# Altium footprint library PcbLib1.pcblib: 48 footprints (part 3 of 3)
Each footprint in its own frame and in the unit in brackets; x right, y up, seen from the top. Pads: shape width x height; smd on the part's side, far side on the other; paste and mask are expansions set on the pad; w line width, h text height; cw(c..) or ccw(c..) is an arc to the next point about the centre after c.
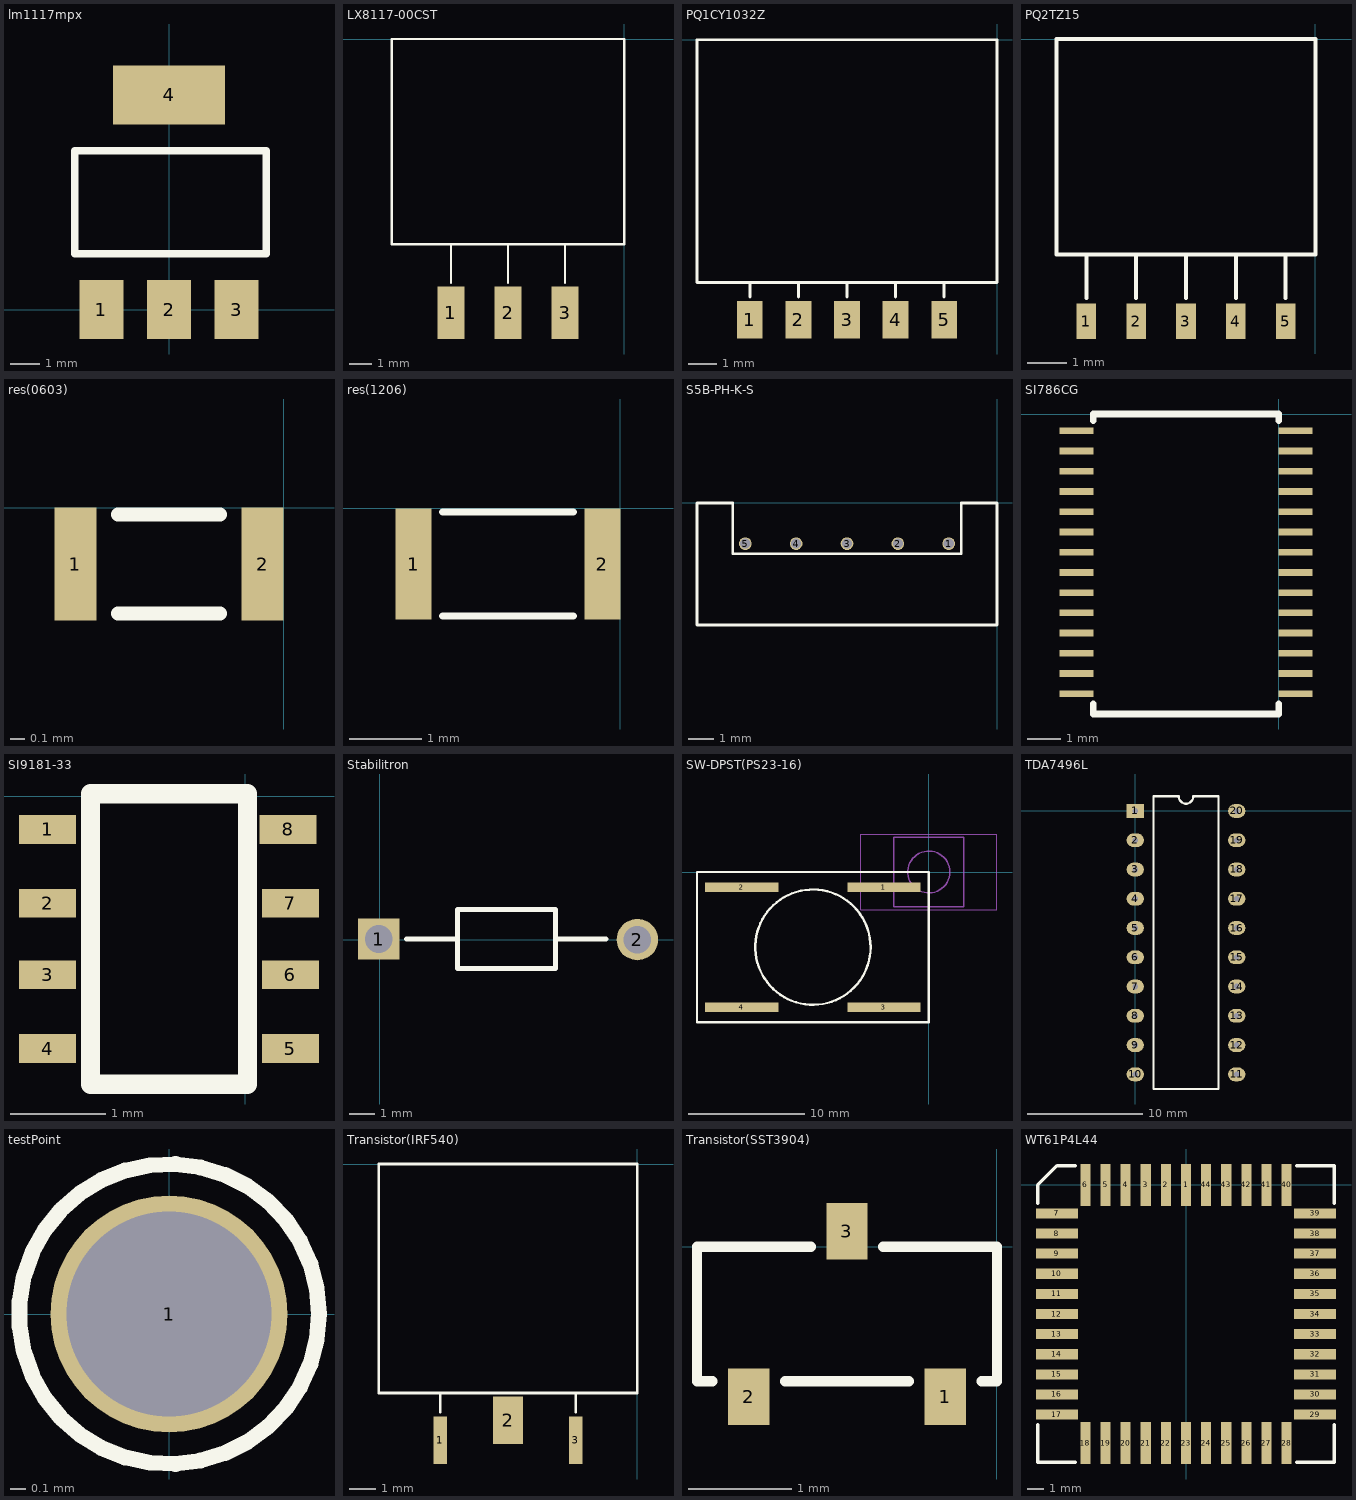
[diagram p2: the footprints below, top view; thin cyan lines are the x and y axes]

## lm1117mpx [mm]
pads (4):
  rect 1.5x2 smd: 1(-2.3,0) 2(0,0) 3(2.3,0)
  rect 3.8x2 smd: 4(0,7.3)
Top Overlay:
  lines w0.254: -3.2,1.9 3.3,1.9 3.3,5.4 -3.2,5.4 -3.2,1.9

## LX8117-00CST [mm]
pads (3):
  rect 1.2x2.3 smd: 1(-7.6,-12) 2(-5.1,-12) 3(-2.6,-12)
Top Overlay:
  lines w0.1: -7.6,-10.7 -7.6,-9 ; -5.1,-10.7 -5.1,-9 ; -2.6,-10.7 -2.6,-9 ; -10.2,-9 0,-9 0,0 -10.2,0 -10.2,-9

## PQ1CY1032Z [mm]
pads (5):
  rect 0.9x1.3 smd: 1(-8.65,-9.8) 2(-6.95,-9.8) 3(-5.25,-9.8) 4(-3.55,-9.8) 5(-1.85,-9.8)
Top Overlay:
  lines w0.1: -8.65,-9 -8.65,-8.5 ; -6.95,-9 -6.95,-8.5 ; -5.25,-9 -5.25,-8.5 ; -3.55,-9 -3.55,-8.55 ; -1.85,-9 -1.85,-8.55 ; -10.5,-8.5 0,-8.5 0,0 -10.5,0 -10.5,-8.5

## PQ2TZ15 [mm]
pads (5):
  rect 0.5x0.9 smd: 1(-5.84,-7.2) 2(-4.57,-7.2) 3(-3.3,-7.2) 4(-2.03,-7.2) 5(-0.76,-7.2)
Top Overlay:
  lines w0.1: -5.84,-6.6 -5.84,-5.5 ; -4.57,-6.6 -4.57,-5.5 ; -3.3,-6.6 -3.3,-5.5 ; -2.03,-6.6 -2.03,-5.5 ; -0.76,-6.6 -0.76,-5.5 ; -6.6,-5.5 0,-5.5 0,0 -6.6,0 -6.6,-5.5

## res(0603) [mm]
pads (2):
  rect 0.3x0.8 smd: 1(-1.475,-0.4) 2(-0.15,-0.4)
Top Overlay:
  lines w0.1: -1.175,-0.75 -0.45,-0.75 ; -1.175,-0.05 -0.45,-0.05

## res(1206) [mm]
pads (2):
  rect 0.5x1.55 smd: 1(-2.875,-0.775) 2(-0.25,-0.775)
Top Overlay:
  lines w0.1: -2.475,-1.5 -0.65,-1.5 ; -2.475,-0.05 -0.65,-0.05

## S5B-PH-K-S [mm]
pads (5):
  round 0.5 hole 0.4: 1(-1.9,-1.6) 2(-3.9,-1.6) 3(-5.9,-1.6) 4(-7.9,-1.6) 5(-9.9,-1.6)
Top Overlay:
  lines w0.1: -11.8,-4.8 0,-4.8 0,0 -1.4,0 -1.4,-2 -10.4,-2 -10.4,0 -11.8,0 -11.8,-4.8

## SI786CG [mm]
pads (28):
  rect 1x0.2 smd: 1(-6,-0.5) 2(-6,-1.1) 3(-6,-1.7) 4(-6,-2.3) 5(-6,-2.9) 6(-6,-3.5) 7(-6,-4.1) 8(-6,-4.7) 9(-6,-5.3) 10(-6,-5.9) 11(-6,-6.5) 12(-6,-7.1) 13(-6,-7.7) 14(-6,-8.3) 15(0.5,-8.3) 16(0.5,-7.7) 17(0.5,-7.1) 18(0.5,-6.5) 19(0.5,-5.9) 20(0.5,-5.3) 21(0.5,-4.7) 22(0.5,-4.1) 23(0.5,-3.5) 24(0.5,-2.9) 25(0.5,-2.3) 26(0.5,-1.7) 27(0.5,-1.1) 28(0.5,-0.5)
Top Overlay:
  lines w0.2: -5.5,-8.6 -5.5,-8.9 0,-8.9 0,-8.6 ; -5.5,-0.2 -5.5,0 0,0 0,-0.2

## SI9181-33 [mm]
pads (8):
  rect 0.6x0.3 smd mask+0.05: 1(-2.075,-0.35) 2(-2.075,-1.125) 3(-2.075,-1.875) 4(-2.075,-2.65) 5(0.475,-2.65) 6(0.475,-1.875) 7(0.475,-1.125) 8(0.45,-0.35)
Top Overlay:
  lines w0.2: -1.625,-3.025 0.025,-3.025 0.025,0.025 -1.625,0.025 -1.625,-3.025

## Stabilitron [mm]
pads (2):
  rect 1.65x1.65 hole 1.1: 1(-0.05,0.025)
  round 1.65 hole 1.1: 2(10.275,0)
Top Overlay:
  lines w0.2: 1.07,0.025 3.1,0.025 ; 9.03,0.025 7,0.025 ; 3.1,0.025 3.1,-1.15 7,-1.15 7,0.025 ; 3.1,0.025 3.1,1.2 7,1.2 7,0.025

## SW-DPST(PS23-16) [mm]
pads (4):
  rect 6.3x0.8 smd: 1(-3.85,-1.3) 2(-16.05,-1.3) 3(-3.85,-11.6) 4(-16.05,-11.6)
Top Overlay:
  lines w0.2: -5,-6.453 cw(c-9.95,-6.45) -5,-6.435 ; -19.9,-12.9 0,-12.9 0,0 -19.9,0 -19.9,-12.9
Mechanical 4:
  circle w0.127: c0,0 r1.796
  circle w0.127: c0,0 r1.796
  lines w0.127: -3,-3 3,-3 ; -3,-3 -3,3 ; -3,-3 3,-3 ; -3,-3 -3,3 ; -3,3 3,3 ; -3,3 3,3 ; 3,-3 3,3 ; 3,-3 3,3
Mechanical 16:
  lines w0.05: -5.85,-3.25 -5.85,3.25 5.85,3.25 5.85,-3.25 -5.85,-3.25

## TDA7496L [mm]
pads (20):
  rect 1.5x1.2 hole 0.5: 1(0,0)
  oval 1.5x1.2 hole 0.5: 2(0,-2.54) 3(0,-5.08) 4(0,-7.62) 5(0,-10.16) 6(0,-12.7) 7(0,-15.24) 8(0,-17.78) 9(0,-20.32) 10(0,-22.86) 11(8.8,-22.86) 12(8.8,-20.32) 13(8.8,-17.78) 14(8.8,-15.24) 15(8.8,-12.7) 16(8.8,-10.16) 17(8.8,-7.62) 18(8.8,-5.08) 19(8.8,-2.54) 20(8.8,0)
Top Overlay:
  lines w0.2: 1.585,-24.13 1.585,1.27 3.765,1.27 ccw(c4.4,1.27) 5.035,1.27 7.215,1.27 7.215,-24.13 1.585,-24.13

## testPoint [mm]
pads (1):
  round 1.5 hole 1.3: 1(0,0)
Top Overlay:
  circle w0.1: c0,0 r0.95

## Transistor(IRF540) [mm]
height 1.1
pads (3):
  rect 0.51x1.78 smd: 1(-7.39,-10.38) 3(-2.31,-10.38)
  rect 1.14x1.78 smd: 2(-4.85,-9.625)
Top Overlay:
  lines w0.1: -7.39,-9.325 -7.39,-8.6 ; -2.31,-9.325 -2.31,-8.6 ; -9.7,-8.6 0,-8.6 0,0 -9.7,0 -9.7,-8.6

## Transistor(SST3904) [mm]
height 1.1
pads (3):
  rect 0.4x0.55 smd: 1(-0.5,-1.45) 2(-2.4,-1.45) 3(-1.45,0.15)
Top Overlay:
  lines w0.1: -2.75,-1.3 -2.9,-1.3 -2.9,0 -1.8,0 ; -2.05,-1.3 -0.85,-1.3 ; -1.1,0 0,0 0,-1.3 -0.15,-1.3

## WT61P4L44 [mm]
pads (44):
  rect 0.6x2.5 smd: 1(0,0) 2(-1.2,0) 3(-2.4,0) 4(-3.6,0) 5(-4.8,0) 6(-6,0) 18(-6,-15.4) 19(-4.8,-15.4) 20(-3.6,-15.4) 21(-2.4,-15.4) 22(-1.2,-15.4) 23(0,-15.4) 24(1.2,-15.4) 25(2.4,-15.4) 26(3.6,-15.4) 27(4.8,-15.4) 28(6,-15.4) 40(6,0) 41(4.8,0) 42(3.6,0) 43(2.4,0) 44(1.2,0)
  rect 2.5x0.6 smd: 7(-7.7,-1.7) 8(-7.7,-2.9) 9(-7.7,-4.1) 10(-7.7,-5.3) 11(-7.7,-6.5) 12(-7.7,-7.7) 13(-7.7,-8.9) 14(-7.7,-10.1) 15(-7.7,-11.3) 16(-7.7,-12.5) 17(-7.7,-13.7) 29(7.7,-13.7) 30(7.7,-12.5) 31(7.7,-11.3) 32(7.7,-10.1) 33(7.7,-8.9) 34(7.7,-7.7) 35(7.7,-6.5) 36(7.7,-5.3) 37(7.7,-4.1) 38(7.7,-2.9) 39(7.7,-1.7)
Top Overlay:
  lines w0.2: -8.85,-14.3 -8.85,-16.55 -6.6,-16.55 ; -8.85,-1.1 -8.85,0 -7.7,1.15 -6.6,1.15 ; 6.6,-16.55 8.85,-16.55 8.85,-14.3 ; 6.6,1.15 8.85,1.15 8.85,-1.1